# Altium schematic symbol library usbdac_lib.SchLib: 7 symbols
Pins are listed as number, name and electrical type; pins without a type are passive.

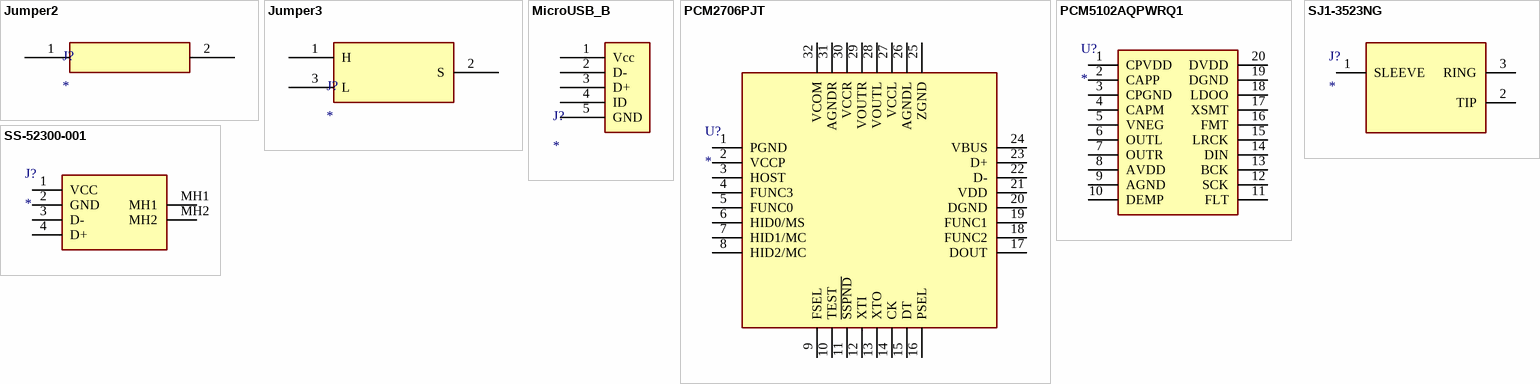
[diagram p0: symbols Jumper2 to SS-52300-001]

## Jumper2
designator J?
footprint Jumper2
pins: 1, 2

## Jumper3
designator J?
footprint Jumper3
pins: 1 H, 2 S, 3 L

## MicroUSB_B
designator J?
footprint micro_usb_molex_105017-0001
pins: 1 Vcc, 2 D-, 3 D+, 4 ID, 5 GND

## PCM2706PJT
designator U?
Integrated Circuit; Manufacturer_Name: Texas Instruments; Manufacturer_Part_Number: PCM2706PJT; Datasheet Link: http://www.ti.com/lit/gpn/pcm2706; Height: 1.2mm
footprint QFP80P900X900X120-32N
pins: 1 PGND, 2 VCCP, 3 HOST, 4 FUNC3, 5 FUNC0, 6 HID0/MS, 7 HID1/MC, 8 HID2/MC, 9 FSEL, 10 TEST, 11 ~{SSPND}, 12 XTI, 13 XTO, 14 CK, 15 DT, 16 PSEL, 17 DOUT, 18 FUNC2, 19 FUNC1, 20 DGND, 21 VDD, 22 D-, 23 D+, 24 VBUS, 25 ZGND, 26 AGNDL, 27 VCCL, 28 VOUTL, 29 VOUTR, 30 VCCR, 31 AGNDR, 32 VCOM

## PCM5102AQPWRQ1
designator U?
Integrated Circuit; Manufacturer_Name: Texas Instruments; Manufacturer_Part_Number: PCM5102AQPWRQ1; Datasheet Link: http://www.ti.com/lit/gpn/pcm5102a-q1; Height: 1.2mm; Mouser2 Part Number: 595-PCM5102AQPWRQ1; Mouser2 Price/Stock: https://www.mouser.com/Search/Refine.aspx?Keyword=595-PCM5102AQPWRQ1
footprint SOP65P640X120-20N
pins: 1 CPVDD, 2 CAPP, 3 CPGND, 4 CAPM, 5 VNEG, 6 OUTL, 7 OUTR, 8 AVDD, 9 AGND, 10 DEMP, 11 FLT, 12 SCK, 13 BCK, 14 DIN, 15 LRCK, 16 FMT, 17 XSMT, 18 LDOO, 19 DGND, 20 DVDD

## SJ1-3523NG
designator J?
Connector; Manufacturer_Name: CUI Inc.; Manufacturer_Part_Number: SJ1-3523NG; Datasheet Link: https://www.arrow.com/en/products/sj1-3523ng/cui-devices; Height: 5.6mm
footprint SJ13523NG
pins: 1 SLEEVE, 2 TIP, 3 RING

## SS-52300-001
designator J?
Connector; Manufacturer_Name: Bel; Manufacturer_Part_Number: SS-52300-001; Datasheet Link: https://belfuse.com/resources/datasheets/stewartconnector/ds-stw-usb-2.0-type-b-connectors.pdf; Height: 10.82mm
footprint SS52300001
pins: 1 VCC, 2 GND, 3 D-, 4 D+, MH1, MH2